# EAGLE library part 634008138121 (library Wurth_Connectors_WR-MJ)
WR-MJ Modular Jack SMT Vertical Plastic 8P8C Kind Properties Quality Class:500 Mating cycles General Information Operating Temperature:-40 up to +85 °C Compliance:RoHS Electrical Properties IR 1:1.5 A Working Voltage:120V (AC) Withstanding Voltage:1000V (AC) Contact Resistance:20mΩ RISO:500 MΩ Material Properties Insulator MateriaL:LCP Insulator Flammability Rating:UL94 V-0 Color:Black Contact Material Copper Alloy Contact Plating: Selective Gold Contact Type:Stamped Packaging Properties Packaging:Tray <https://www.we-online.com/catalog/media/o60707v209%20Family_WR-MJ_634008138121.jpg> Details see: https://www.we-online.com/catalog/en/MJ_VERTICAL_PLASTIC_8P8C_W_EARS/ <https://www.we-online.com/catalog/en/MJ_SMT_VERTICAL_PLASTIC_8P8C/> Updated by Yingchun,Shan 2020-01-07 2020(C) Würth Elektronik
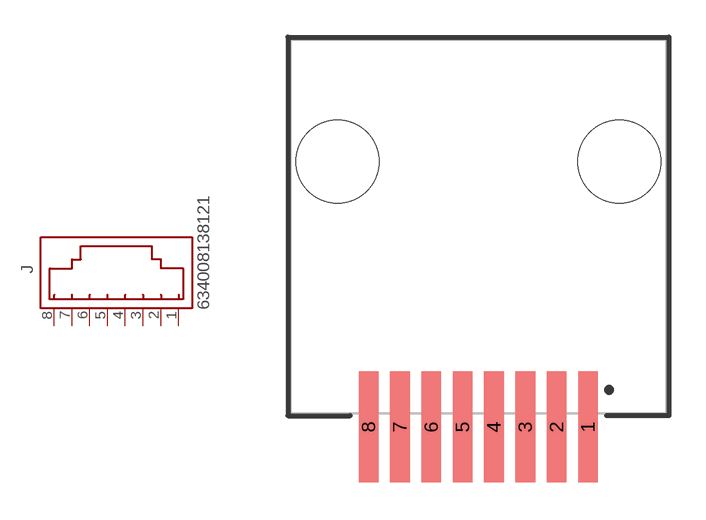
[diagram p15: symbol with the pads of 634008138121; footprint 634008138121]

Designator prefix J

## 634008138121 (DATASHEET-URL: https://www.we-online.com/redexpert/spec/634008138121?ae; MOUNT: SMT; PART-NUMBER: 634008138121; TYPE: Vertical; VALUE: 634008138121; XPXC: 8P8C)  [634008138121]
1  1  pas
2  2  pas
3  3  pas
4  4  pas
5  5  pas
6  6  pas
7  7  pas
8  8  pas

## Footprint 634008138121 (pad centres in mm)
WR-MJ Modular Jack SMT Vertical Plastic 8P8C ,8 pins
smd 0.8 x 4.5: 1 4.445,-8.135; 2 3.175,-8.135; 3 1.905,-8.135; 4 0.635,-8.135; 5 -0.635,-8.135; 6 -1.905,-8.135; 7 -3.175,-8.135; 8 -4.445,-8.135
hole 3.35 at 5.715,2.615
hole 3.35 at -5.715,2.615